# Altium schematic symbol library LMH6611.SchLib: 1 symbol
Pins are listed as number, name and electrical type; pins without a type are passive.

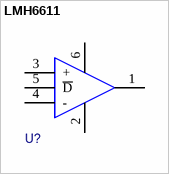
[diagram p0: symbol LMH6611]

## LMH6611
designator U?  (value not drawn)
pins: 1 VOUT, 2 VS-, 3 +, 4 -, 5 ~{D}, 6 VS+